# Altium footprint library VQFN-24_AD.PcbLib: 1 footprints
Each footprint in its own frame and in the unit in brackets; x right, y up, seen from the top. Pads: shape width x height; smd on the part's side, far side on the other; paste and mask are expansions set on the pad; w line width, h text height; cw(c..) or ccw(c..) is an arc to the next point about the centre after c.
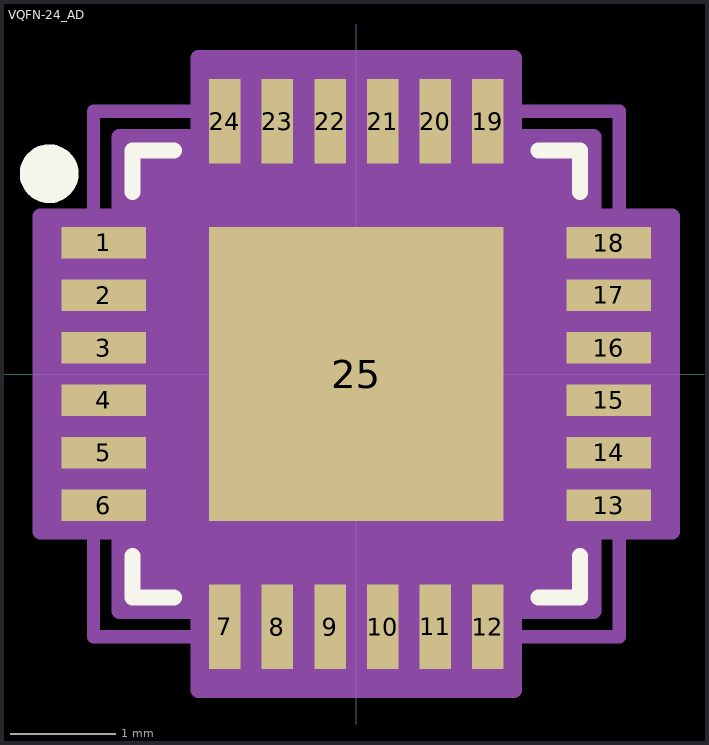
[diagram p0: the footprint, top view; thin cyan lines are the x and y axes]

## VQFN-24_AD [mm]
pads (25):
  rect 0.805x0.3 smd: 1(-2.402,1.25) 2(-2.402,0.75) 3(-2.402,0.25) 4(-2.402,-0.25) 5(-2.402,-0.75) 6(-2.402,-1.25) 13(2.402,-1.25) 14(2.402,-0.75) 15(2.402,-0.25) 16(2.402,0.25) 17(2.402,0.75) 18(2.402,1.25)
  rect 0.3x0.805 smd: 7(-1.25,-2.402) 8(-0.75,-2.402) 9(-0.25,-2.402) 10(0.25,-2.402) 11(0.75,-2.402) 12(1.25,-2.402) 19(1.25,2.402) 20(0.75,2.402) 21(0.25,2.402) 22(-0.25,2.402) 23(-0.75,2.402) 24(-1.25,2.402)
  rect 2.8x2.8 smd paste-1.387: 25(0,0)
Top Overlay:
  circle w0.305: c-2.921,1.905 r0.127
  lines w0.152: -2.127,-1.733 -2.127,-2.127 -1.733,-2.127 ; -2.127,1.733 -2.127,2.127 -1.733,2.127 ; 1.733,-2.127 2.127,-2.127 2.127,-1.733 ; 1.733,2.127 2.127,2.127 2.127,1.733
Top Paste:
  region: -0.127,1.27 -1.27,1.27 -1.27,0.127 -0.127,0.127
  region: -0.127,-0.127 -1.27,-0.127 -1.27,-1.27 -0.127,-1.27
  region: 1.27,1.27 0.127,1.27 0.127,0.127 1.27,0.127
  region: 1.27,-0.127 0.127,-0.127 0.127,-1.27 1.27,-1.27
Mechanical 13:
  lines w0.127: -2.5,-2.5 -2.5,2.5 2.5,2.5 2.5,-2.5 -2.5,-2.5
Mechanical 15:
  region: -1.5,-2.254 -2.254,-2.254 -2.254,-1.5 -3.004,-1.5 -3.004,1.5 -2.254,1.5 -2.254,2.254 -1.5,2.254 -1.5,3.004 1.5,3.004 1.5,2.254 2.254,2.254 2.254,1.5 3.004,1.5 3.004,-1.5 2.254,-1.5 2.254,-2.254 1.5,-2.254 1.5,-3.004 -1.5,-3.004
  lines w0.152: -3.004,-1.5 -2.254,-1.5 -2.254,-2.254 -1.5,-2.254 -1.5,-3.004 1.5,-3.004 1.5,-2.254 2.254,-2.254 2.254,-1.5 3.004,-1.5 3.004,1.5 2.254,1.5 2.254,2.254 1.5,2.254 1.5,3.004 -1.5,3.004 -1.5,2.254 -2.254,2.254 -2.254,1.5 -3.004,1.5 -3.004,-1.5
3D body "HCP_24_2.step": height 0.97, standoff 0, extent -2.5,-2.5 2.5,2.5